# Altium schematic symbol library LogicG.SchLib: 8 symbols
Pins are listed as number, name and electrical type; pins without a type are passive.

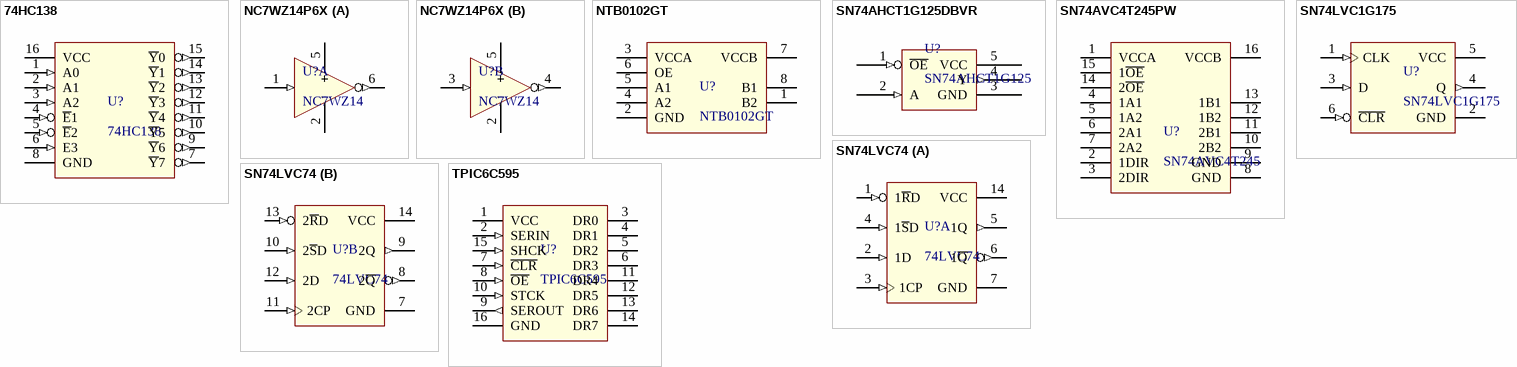
[diagram p0: symbols 74HC138 to TPIC6C595]

## 74HC138
designator U?
pins: 1 A0 (in), 2 A1 (in), 3 A2 (in), 4 ~{E}1 (in), 5 ~{E}2 (in), 6 E3 (in), 7 ~{Y}7 (out), 8 GND (power), 9 ~{Y}6 (out), 10 ~{Y}5 (out), 11 ~{Y}4 (out), 12 ~{Y}3 (out), 13 ~{Y}2 (out), 14 ~{Y}1 (out), 15 ~{Y}0 (out), 16 VCC (power)

## NC7WZ14P6X
designator U?, comment NC7WZ14
Dual Inverter with Schmitt Trigger
footprint SC70-LT6_N (Footprint not found)
part A pins: 1 A1 (in), 2 GND (power), 5 VCC (power), 6 Y1 (out)
part B pins: 2 GND (power), 3 A2 (in), 4 Y2 (out), 5 VCC (power)

## NTB0102GT
designator U?
2-bit auto-sensing transceiver
pins: 1 B2, 2 GND, 3 VCCA, 4 A2, 5 A1, 6 OE, 7 VCCB, 8 B1

## SN74AHCT1G125DBVR
designator U?, comment SN74AHCT1G125
Single bus buffer gate with 3-state output
footprint DBV005 (SOT-23/SC-74A; 5 Leads; Body 3 x 3 mm, inc. leads (LxW max))
pins: 1 ~{OE} (in), 2 A (in), 3 GND (power), 4 Y (out), 5 VCC (power)

## SN74AVC4T245PW
designator U?, comment SN74AVC4T245
4-bit Bus Transceiver
footprint PW016 (Shrink Small Outline; 16 Leads; Body Width 4.4 mm; Pitch 0.65 mm)
footprint D016_N (16-Pin Small Outline Integrated Circuit 1.27 mm Pitch, IPC Medium Density)
pins: 1 VCCA, 2 1DIR, 3 2DIR, 4 1A1, 5 1A2, 6 2A1, 7 2A2, 8 GND, 9 GND, 10 2B2, 11 2B1, 12 1B2, 13 1B1, 14 2~{OE}, 15 1~{OE}, 16 VCCB

## SN74LVC1G175
designator U?
Supplier Part Number 1: 568-7761-1-ND
footprint TSOP65P210X110-6N (TSOP, 6-Leads, Body 2.00x1.25mm, Pitch 0.65mm, IPC Medium Density (SOT-363, SC-88))
pins: 1 CLK (in), 2 GND (power), 3 D (in), 4 Q (out), 5 VCC (power), 6 ~{CLR} (in)

## SN74LVC74
designator U?, comment 74LVC74
part A pins: 1 1~{R}D (in), 2 1D (in), 3 1CP (in), 4 1~{S}D (in), 5 1Q (out), 6 1~{Q} (out), 7 GND (power), 14 VCC (power)
part B pins: 7 GND (power), 8 2~{Q} (out), 9 2Q (out), 10 2~{S}D (in), 11 2CP (in), 12 2D (in), 13 2~{R}D (in), 14 VCC (power)

## TPIC6C595
designator U?
footprint PW016 (Shrink Small Outline; 16 Leads; Body Width 4.4 mm; Pitch 0.65 mm)
pins: 1 VCC (power), 2 SERIN (in), 3 DR0 (oc), 4 DR1 (oc), 5 DR2 (oc), 6 DR3 (oc), 7 ~{CLR} (in), 8 ~{OE} (in), 9 SEROUT (out), 10 STCK (in), 11 DR4 (oc), 12 DR5 (oc), 13 DR6 (oc), 14 DR7 (oc), 15 SHCK (in), 16 GND (power)